# Altium integrated library Linear Technology Comparators.IntLib: 630 symbols (part 24 of 24)
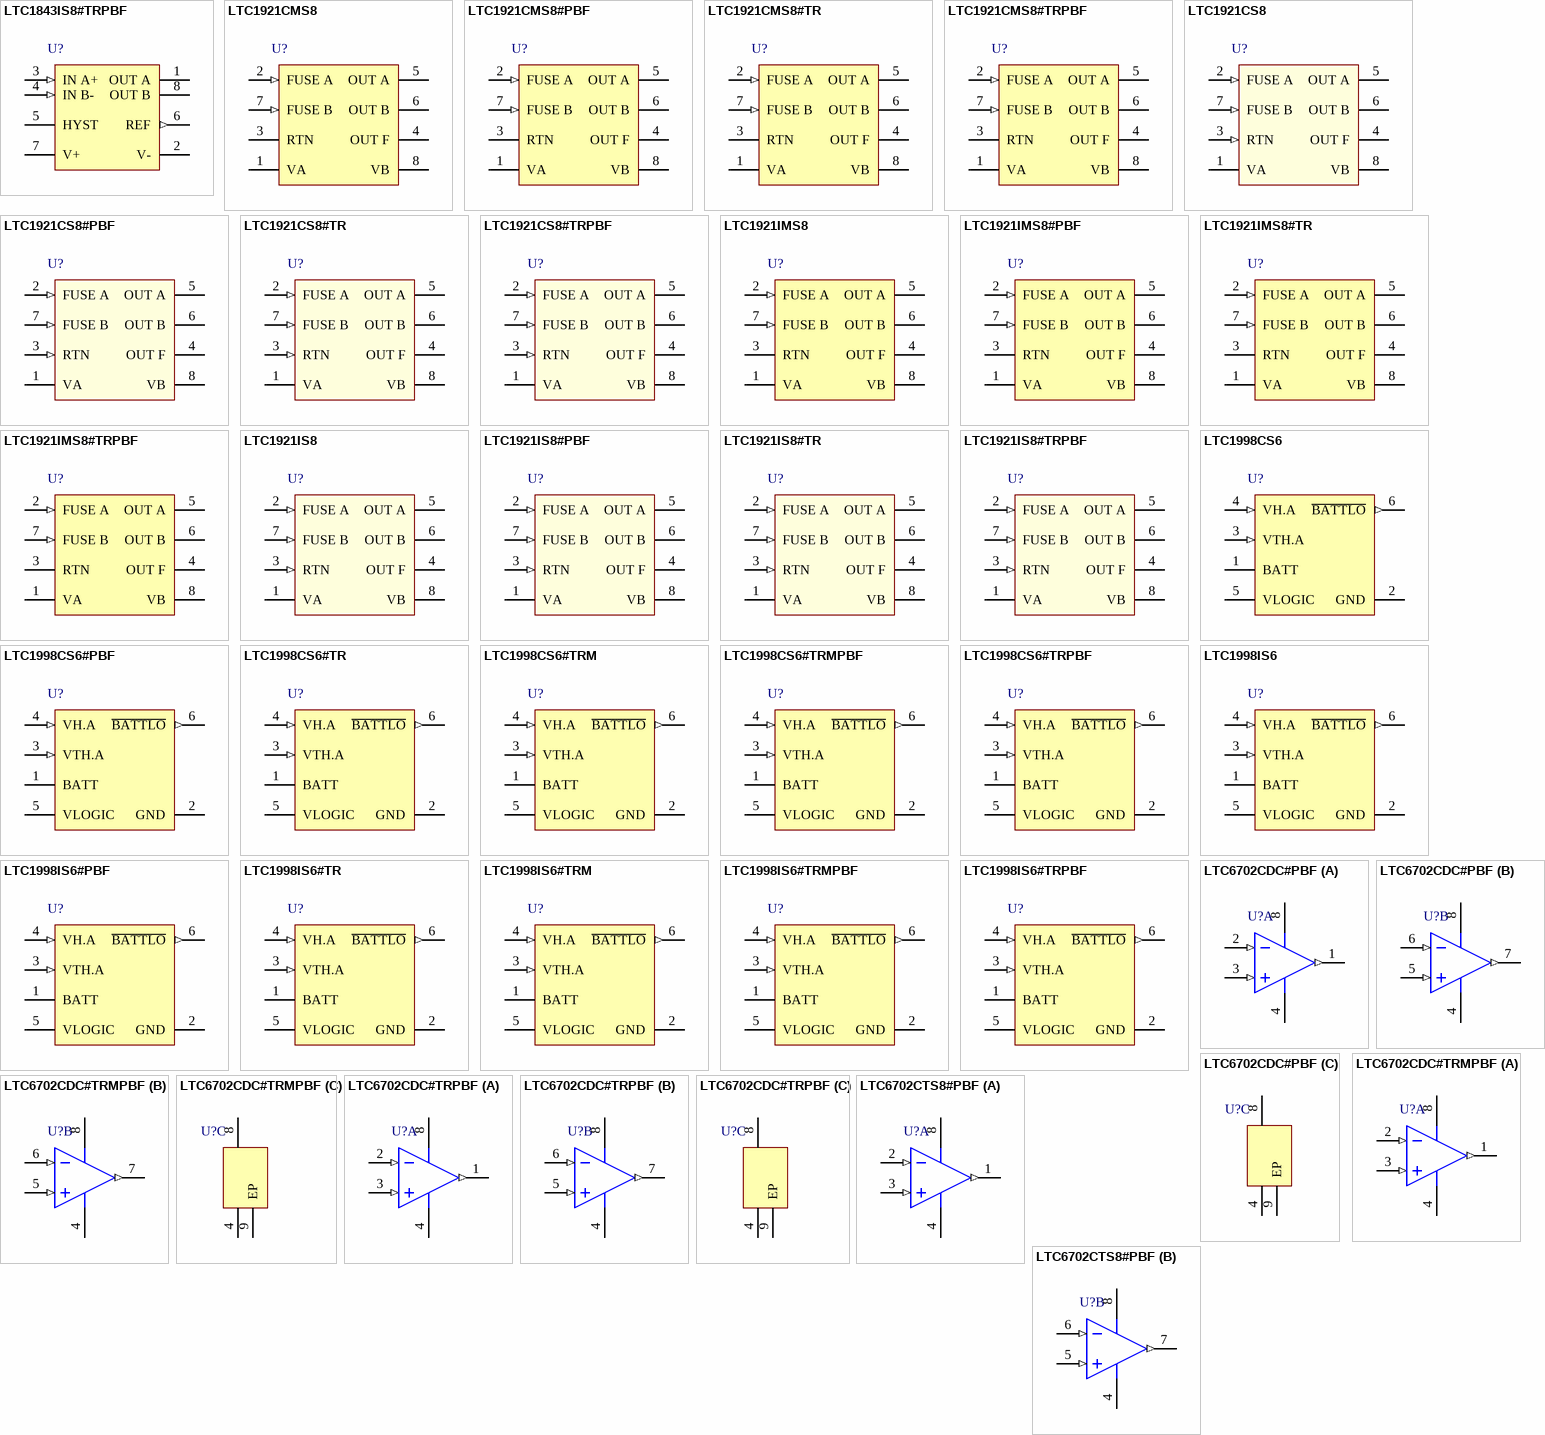
[diagram p47: symbols LTC1843IS8#TRPBF to LTC6702CTS8#PBF]

## LTC1998CS6
designator U?
2.5 µA, 1 % Accurate SOT-23 Comparator and Voltage Reference for Battery Monitoring, 1 Channel, 1.5 to 5.5 V, 0 to +70 degC, 6-pin Plastic TSOT-23 (S6); Generic Part Number: LTC1998; Manufacturer: Linear Technology; PartNumber: LTC1998CS6; Channels (#): 1; Prop Delay (us): 150; Supply Current (uA) Typical: 3.5; Vs Max (V): 5.5; Vs Min (V): 1.5; DatasheetVersion: Rev B; PackageReference: S6; PackageDescription: 6-Pin Plastic TSOT-23, Body 2.9 x 1.63 mm, Pitch 0.95 mm; Features: Reference, Comparator; RoHS: N; Supply Voltage Range: 1.5 to 5.5 V; Mounting Technology: Surface Mount; Code_JEDEC: MO-193; ComponentLink1Description: Manufacturer URL; ComponentLink1URL: http://www.linear.com/; ComponentLink2Description: Datasheet; ComponentLink2URL: http://cds.linear.com/docs/en/datasheet/1998fb.pdf; ComponentLink3Description: Package Specification; ComponentLink3URL: http://cds.linear.com/docs/en/packaging/SOT_6_05-08-1636.pdf
footprint LT-S6_N (SOT23, 6-Leads, Body 2.9x1.63mm, Pitch 0.95mm, IPC Medium Density)
footprint LT-S6_L (SOT23, 6-Leads, Body 2.9x1.63mm, Pitch 0.95mm, IPC High Density)
footprint LT-S6_M (SOT23, 6-Leads, Body 2.9x1.63mm, Pitch 0.95mm, IPC Low Density)
pins: 1 BATT (power) "Battery Voltage to be monitored. Supply current is also drawn from this pin. Board layout should connect this pin to the battery(+) terminal, through a trace that does not conduct load current.?", 2 GND (power) "Ground should be connected to the battery (-) terminal through a trace that does not conduct load return current.", 3 VTH.A (in) "Threshold Adjust Pin. Adjusts the low battery threshold voltage, VBATT.Th = 2.5V + (VTH.A/2). VTH.A can be supplied by a voltage source or a resistor divider.", 4 VH.A (in) "Hysteresis Adjust. Hysteresis threshold voltage VTH2 = 2.5V + (VH.A/2). VH.A can be supplied by a voltage source or resistor divider. VH.A must always be programmed to a higher potential than VTH.A. Hysteresis voltage, VHYST (See Datasheet)", 5 VLOGIC (power) "Positive Supply Voltage for Output Driver. This voltage can be driven from an external logic supply or tied to BATT.", 6 ~{BATTLO} (out) "Output of Comparator. Low for BATT < VBATT.Th (low battery threshold voltage). Output state guaranteed for VBATT>=1.5V."

## LTC1998CS6#PBF
designator U?
2.5 µA, 1 % Accurate SOT-23 Comparator and Voltage Reference for Battery Monitoring, 1 Channel, 1.5 to 5.5 V, 0 to +70 degC, 6-pin Plastic TSOT-23 (S6); Generic Part Number: LTC1998; Manufacturer: Linear Technology; PartNumber: LTC1998CS6#PBF; Channels (#): 1; Prop Delay (us): 150; Supply Current (uA) Typical: 3.5; Vs Max (V): 5.5; Vs Min (V): 1.5; DatasheetVersion: Rev B; PackageReference: S6; PackageDescription: 6-Pin Plastic TSOT-23, Body 2.9 x 1.63 mm, Pitch 0.95 mm; Features: Reference, Comparator; RoHS: Y; Supply Voltage Range: 1.5 to 5.5 V; Mounting Technology: Surface Mount; Code_JEDEC: MO-193; ComponentLink1Description: Manufacturer URL; ComponentLink1URL: http://www.linear.com/; ComponentLink2Description: Datasheet; ComponentLink2URL: http://cds.linear.com/docs/en/datasheet/1998fb.pdf; ComponentLink3Description: Package Specification; ComponentLink3URL: http://cds.linear.com/docs/en/packaging/SOT_6_05-08-1636.pdf
footprint LT-S6_N (SOT23, 6-Leads, Body 2.9x1.63mm, Pitch 0.95mm, IPC Medium Density)
footprint LT-S6_L (SOT23, 6-Leads, Body 2.9x1.63mm, Pitch 0.95mm, IPC High Density)
footprint LT-S6_M (SOT23, 6-Leads, Body 2.9x1.63mm, Pitch 0.95mm, IPC Low Density)
pins: 1 BATT (power) "Battery Voltage to be monitored. Supply current is also drawn from this pin. Board layout should connect this pin to the battery(+) terminal, through a trace that does not conduct load current.?", 2 GND (power) "Ground should be connected to the battery (-) terminal through a trace that does not conduct load return current.", 3 VTH.A (in) "Threshold Adjust Pin. Adjusts the low battery threshold voltage, VBATT.Th = 2.5V + (VTH.A/2). VTH.A can be supplied by a voltage source or a resistor divider.", 4 VH.A (in) "Hysteresis Adjust. Hysteresis threshold voltage VTH2 = 2.5V + (VH.A/2). VH.A can be supplied by a voltage source or resistor divider. VH.A must always be programmed to a higher potential than VTH.A. Hysteresis voltage, VHYST (See Datasheet)", 5 VLOGIC (power) "Positive Supply Voltage for Output Driver. This voltage can be driven from an external logic supply or tied to BATT.", 6 ~{BATTLO} (out) "Output of Comparator. Low for BATT < VBATT.Th (low battery threshold voltage). Output state guaranteed for VBATT>=1.5V."

## LTC1998CS6#TR
designator U?
2.5 µA, 1 % Accurate SOT-23 Comparator and Voltage Reference for Battery Monitoring, 1 Channel, 1.5 to 5.5 V, 0 to +70 degC, 6-pin Plastic TSOT-23 (S6), Tape and Reel; Generic Part Number: LTC1998; Manufacturer: Linear Technology; PartNumber: LTC1998CS6#TR; Channels (#): 1; Prop Delay (us): 150; Supply Current (uA) Typical: 3.5; Vs Max (V): 5.5; Vs Min (V): 1.5; DatasheetVersion: Rev B; PackageReference: S6; PackageDescription: 6-Pin Plastic TSOT-23, Body 2.9 x 1.63 mm, Pitch 0.95 mm; Supplier 1: Digi-Key; Supplier Part Number 1: LTC1998CS6TR-ND; Features: Reference, Comparator; RoHS: N; Supply Voltage Range: 1.5 to 5.5 V; Mounting Technology: Surface Mount; Code_JEDEC: MO-193; ComponentLink1Description: Manufacturer URL; ComponentLink1URL: http://www.linear.com/; ComponentLink2Description: Datasheet; ComponentLink2URL: http://cds.linear.com/docs/en/datasheet/1998fb.pdf; ComponentLink3Description: Package Specification; ComponentLink3URL: http://cds.linear.com/docs/en/packaging/SOT_6_05-08-1636.pdf
footprint LT-S6_N (SOT23, 6-Leads, Body 2.9x1.63mm, Pitch 0.95mm, IPC Medium Density)
footprint LT-S6_L (SOT23, 6-Leads, Body 2.9x1.63mm, Pitch 0.95mm, IPC High Density)
footprint LT-S6_M (SOT23, 6-Leads, Body 2.9x1.63mm, Pitch 0.95mm, IPC Low Density)
pins: 1 BATT (power) "Battery Voltage to be monitored. Supply current is also drawn from this pin. Board layout should connect this pin to the battery(+) terminal, through a trace that does not conduct load current.?", 2 GND (power) "Ground should be connected to the battery (-) terminal through a trace that does not conduct load return current.", 3 VTH.A (in) "Threshold Adjust Pin. Adjusts the low battery threshold voltage, VBATT.Th = 2.5V + (VTH.A/2). VTH.A can be supplied by a voltage source or a resistor divider.", 4 VH.A (in) "Hysteresis Adjust. Hysteresis threshold voltage VTH2 = 2.5V + (VH.A/2). VH.A can be supplied by a voltage source or resistor divider. VH.A must always be programmed to a higher potential than VTH.A. Hysteresis voltage, VHYST (See Datasheet)", 5 VLOGIC (power) "Positive Supply Voltage for Output Driver. This voltage can be driven from an external logic supply or tied to BATT.", 6 ~{BATTLO} (out) "Output of Comparator. Low for BATT < VBATT.Th (low battery threshold voltage). Output state guaranteed for VBATT>=1.5V."

## LTC1998CS6#TRM
designator U?
2.5 µA, 1 % Accurate SOT-23 Comparator and Voltage Reference for Battery Monitoring, 1 Channel, 1.5 to 5.5 V, 0 to +70 degC, 6-pin Plastic TSOT-23 (S6), Mini Tape and Reel; Generic Part Number: LTC1998; Manufacturer: Linear Technology; PartNumber: LTC1998CS6#TRM; Channels (#): 1; Prop Delay (us): 150; Supply Current (uA) Typical: 3.5; Vs Max (V): 5.5; Vs Min (V): 1.5; DatasheetVersion: Rev B; PackageReference: S6; PackageDescription: 6-Pin Plastic TSOT-23, Body 2.9 x 1.63 mm, Pitch 0.95 mm; Supplier 1: Digi-Key; Supplier Part Number 1: LTC1998CS6#TRMTR-ND; Supplier 2: Digi-Key; Supplier Part Number 2: LTC1998CS6#TRMCT-ND; Features: Reference, Comparator; RoHS: N; Supply Voltage Range: 1.5 to 5.5 V; Mounting Technology: Surface Mount; Code_JEDEC: MO-193; ComponentLink1Description: Manufacturer URL; ComponentLink1URL: http://www.linear.com/; ComponentLink2Description: Datasheet; ComponentLink2URL: http://cds.linear.com/docs/en/datasheet/1998fb.pdf; ComponentLink3Description: Package Specification; ComponentLink3URL: http://cds.linear.com/docs/en/packaging/SOT_6_05-08-1636.pdf
footprint LT-S6_N (SOT23, 6-Leads, Body 2.9x1.63mm, Pitch 0.95mm, IPC Medium Density)
footprint LT-S6_L (SOT23, 6-Leads, Body 2.9x1.63mm, Pitch 0.95mm, IPC High Density)
footprint LT-S6_M (SOT23, 6-Leads, Body 2.9x1.63mm, Pitch 0.95mm, IPC Low Density)
pins: 1 BATT (power) "Battery Voltage to be monitored. Supply current is also drawn from this pin. Board layout should connect this pin to the battery(+) terminal, through a trace that does not conduct load current.?", 2 GND (power) "Ground should be connected to the battery (-) terminal through a trace that does not conduct load return current.", 3 VTH.A (in) "Threshold Adjust Pin. Adjusts the low battery threshold voltage, VBATT.Th = 2.5V + (VTH.A/2). VTH.A can be supplied by a voltage source or a resistor divider.", 4 VH.A (in) "Hysteresis Adjust. Hysteresis threshold voltage VTH2 = 2.5V + (VH.A/2). VH.A can be supplied by a voltage source or resistor divider. VH.A must always be programmed to a higher potential than VTH.A. Hysteresis voltage, VHYST (See Datasheet)", 5 VLOGIC (power) "Positive Supply Voltage for Output Driver. This voltage can be driven from an external logic supply or tied to BATT.", 6 ~{BATTLO} (out) "Output of Comparator. Low for BATT < VBATT.Th (low battery threshold voltage). Output state guaranteed for VBATT>=1.5V."

## LTC1998CS6#TRMPBF
designator U?
2.5 µA, 1 % Accurate SOT-23 Comparator and Voltage Reference for Battery Monitoring, 1 Channel, 1.5 to 5.5 V, 0 to +70 degC, 6-pin Plastic TSOT-23 (S6), Mini Tape and Reel; Generic Part Number: LTC1998; Manufacturer: Linear Technology; PartNumber: LTC1998CS6#TRMPBF; Channels (#): 1; Prop Delay (us): 150; Supply Current (uA) Typical: 3.5; Vs Max (V): 5.5; Vs Min (V): 1.5; DatasheetVersion: Rev B; PackageReference: S6; PackageDescription: 6-Pin Plastic TSOT-23, Body 2.9 x 1.63 mm, Pitch 0.95 mm; Supplier 1: Digi-Key; Supplier Part Number 1: LTC1998CS6#TRMPBFTR-ND; Supplier 2: Digi-Key; Supplier Part Number 2: LTC1998CS6#TRMPBFCT-ND; Supplier 3: Digi-Key; Supplier Part Number 3: LTC1998CS6#TRMPBFDKR-ND; Supplier 4: Farnell; Supplier Part Number 4: 1663873; Supplier 5: Farnell; Supplier Part Number 5: 1663873RL; Supplier 6: Newark; Supplier Part Number 6: 58M0722; Features: Reference, Comparator; RoHS: Y; Supply Voltage Range: 1.5 to 5.5 V; Mounting Technology: Surface Mount; Code_JEDEC: MO-193; ComponentLink1Description: Manufacturer URL; ComponentLink1URL: http://www.linear.com/; ComponentLink2Description: Datasheet; ComponentLink2URL: http://cds.linear.com/docs/en/datasheet/1998fb.pdf; ComponentLink3Description: Package Specification; ComponentLink3URL: http://cds.linear.com/docs/en/packaging/SOT_6_05-08-1636.pdf
footprint LT-S6_N (SOT23, 6-Leads, Body 2.9x1.63mm, Pitch 0.95mm, IPC Medium Density)
footprint LT-S6_L (SOT23, 6-Leads, Body 2.9x1.63mm, Pitch 0.95mm, IPC High Density)
footprint LT-S6_M (SOT23, 6-Leads, Body 2.9x1.63mm, Pitch 0.95mm, IPC Low Density)
pins: 1 BATT (power) "Battery Voltage to be monitored. Supply current is also drawn from this pin. Board layout should connect this pin to the battery(+) terminal, through a trace that does not conduct load current.?", 2 GND (power) "Ground should be connected to the battery (-) terminal through a trace that does not conduct load return current.", 3 VTH.A (in) "Threshold Adjust Pin. Adjusts the low battery threshold voltage, VBATT.Th = 2.5V + (VTH.A/2). VTH.A can be supplied by a voltage source or a resistor divider.", 4 VH.A (in) "Hysteresis Adjust. Hysteresis threshold voltage VTH2 = 2.5V + (VH.A/2). VH.A can be supplied by a voltage source or resistor divider. VH.A must always be programmed to a higher potential than VTH.A. Hysteresis voltage, VHYST (See Datasheet)", 5 VLOGIC (power) "Positive Supply Voltage for Output Driver. This voltage can be driven from an external logic supply or tied to BATT.", 6 ~{BATTLO} (out) "Output of Comparator. Low for BATT < VBATT.Th (low battery threshold voltage). Output state guaranteed for VBATT>=1.5V."

## LTC1998CS6#TRPBF
designator U?
2.5 µA, 1 % Accurate SOT-23 Comparator and Voltage Reference for Battery Monitoring, 1 Channel, 1.5 to 5.5 V, 0 to +70 degC, 6-pin Plastic TSOT-23 (S6), Tape and Reel; Generic Part Number: LTC1998; Manufacturer: Linear Technology; PartNumber: LTC1998CS6#TRPBF; Channels (#): 1; Prop Delay (us): 150; Supply Current (uA) Typical: 3.5; Vs Max (V): 5.5; Vs Min (V): 1.5; DatasheetVersion: Rev B; PackageReference: S6; PackageDescription: 6-Pin Plastic TSOT-23, Body 2.9 x 1.63 mm, Pitch 0.95 mm; Supplier 1: Digi-Key; Supplier Part Number 1: LTC1998CS6#TRPBF-ND; Features: Reference, Comparator; RoHS: Y; Supply Voltage Range: 1.5 to 5.5 V; Mounting Technology: Surface Mount; Code_JEDEC: MO-193; ComponentLink1Description: Manufacturer URL; ComponentLink1URL: http://www.linear.com/; ComponentLink2Description: Datasheet; ComponentLink2URL: http://cds.linear.com/docs/en/datasheet/1998fb.pdf; ComponentLink3Description: Package Specification; ComponentLink3URL: http://cds.linear.com/docs/en/packaging/SOT_6_05-08-1636.pdf
footprint LT-S6_N (SOT23, 6-Leads, Body 2.9x1.63mm, Pitch 0.95mm, IPC Medium Density)
footprint LT-S6_L (SOT23, 6-Leads, Body 2.9x1.63mm, Pitch 0.95mm, IPC High Density)
footprint LT-S6_M (SOT23, 6-Leads, Body 2.9x1.63mm, Pitch 0.95mm, IPC Low Density)
pins: 1 BATT (power) "Battery Voltage to be monitored. Supply current is also drawn from this pin. Board layout should connect this pin to the battery(+) terminal, through a trace that does not conduct load current.?", 2 GND (power) "Ground should be connected to the battery (-) terminal through a trace that does not conduct load return current.", 3 VTH.A (in) "Threshold Adjust Pin. Adjusts the low battery threshold voltage, VBATT.Th = 2.5V + (VTH.A/2). VTH.A can be supplied by a voltage source or a resistor divider.", 4 VH.A (in) "Hysteresis Adjust. Hysteresis threshold voltage VTH2 = 2.5V + (VH.A/2). VH.A can be supplied by a voltage source or resistor divider. VH.A must always be programmed to a higher potential than VTH.A. Hysteresis voltage, VHYST (See Datasheet)", 5 VLOGIC (power) "Positive Supply Voltage for Output Driver. This voltage can be driven from an external logic supply or tied to BATT.", 6 ~{BATTLO} (out) "Output of Comparator. Low for BATT < VBATT.Th (low battery threshold voltage). Output state guaranteed for VBATT>=1.5V."

## LTC1998IS6
designator U?
2.5 µA, 1 % Accurate SOT-23 Comparator and Voltage Reference for Battery Monitoring, 1 Channel, 1.5 to 5.5 V, -40 to +85 degC, 6-pin Plastic TSOT-23 (S6); Generic Part Number: LTC1998; Manufacturer: Linear Technology; PartNumber: LTC1998IS6; Channels (#): 1; Prop Delay (us): 150; Supply Current (uA) Typical: 3.5; Vs Max (V): 5.5; Vs Min (V): 1.5; DatasheetVersion: Rev B; PackageReference: S6; PackageDescription: 6-Pin Plastic TSOT-23, Body 2.9 x 1.63 mm, Pitch 0.95 mm; Features: Reference, Comparator; RoHS: N; Supply Voltage Range: 1.5 to 5.5 V; Mounting Technology: Surface Mount; Code_JEDEC: MO-193; ComponentLink1Description: Manufacturer URL; ComponentLink1URL: http://www.linear.com/; ComponentLink2Description: Datasheet; ComponentLink2URL: http://cds.linear.com/docs/en/datasheet/1998fb.pdf; ComponentLink3Description: Package Specification; ComponentLink3URL: http://cds.linear.com/docs/en/packaging/SOT_6_05-08-1636.pdf
footprint LT-S6_N (SOT23, 6-Leads, Body 2.9x1.63mm, Pitch 0.95mm, IPC Medium Density)
footprint LT-S6_L (SOT23, 6-Leads, Body 2.9x1.63mm, Pitch 0.95mm, IPC High Density)
footprint LT-S6_M (SOT23, 6-Leads, Body 2.9x1.63mm, Pitch 0.95mm, IPC Low Density)
pins: 1 BATT (power) "Battery Voltage to be monitored. Supply current is also drawn from this pin. Board layout should connect this pin to the battery(+) terminal, through a trace that does not conduct load current.?", 2 GND (power) "Ground should be connected to the battery (-) terminal through a trace that does not conduct load return current.", 3 VTH.A (in) "Threshold Adjust Pin. Adjusts the low battery threshold voltage, VBATT.Th = 2.5V + (VTH.A/2). VTH.A can be supplied by a voltage source or a resistor divider.", 4 VH.A (in) "Hysteresis Adjust. Hysteresis threshold voltage VTH2 = 2.5V + (VH.A/2). VH.A can be supplied by a voltage source or resistor divider. VH.A must always be programmed to a higher potential than VTH.A. Hysteresis voltage, VHYST (See Datasheet)", 5 VLOGIC (power) "Positive Supply Voltage for Output Driver. This voltage can be driven from an external logic supply or tied to BATT.", 6 ~{BATTLO} (out) "Output of Comparator. Low for BATT < VBATT.Th (low battery threshold voltage). Output state guaranteed for VBATT>=1.5V."

## LTC1998IS6#PBF
designator U?
2.5 µA, 1 % Accurate SOT-23 Comparator and Voltage Reference for Battery Monitoring, 1 Channel, 1.5 to 5.5 V, -40 to +85 degC, 6-pin Plastic TSOT-23 (S6); Generic Part Number: LTC1998; Manufacturer: Linear Technology; PartNumber: LTC1998IS6#PBF; Channels (#): 1; Prop Delay (us): 150; Supply Current (uA) Typical: 3.5; Vs Max (V): 5.5; Vs Min (V): 1.5; DatasheetVersion: Rev B; PackageReference: S6; PackageDescription: 6-Pin Plastic TSOT-23, Body 2.9 x 1.63 mm, Pitch 0.95 mm; Features: Reference, Comparator; RoHS: Y; Supply Voltage Range: 1.5 to 5.5 V; Mounting Technology: Surface Mount; Code_JEDEC: MO-193; ComponentLink1Description: Manufacturer URL; ComponentLink1URL: http://www.linear.com/; ComponentLink2Description: Datasheet; ComponentLink2URL: http://cds.linear.com/docs/en/datasheet/1998fb.pdf; ComponentLink3Description: Package Specification; ComponentLink3URL: http://cds.linear.com/docs/en/packaging/SOT_6_05-08-1636.pdf
footprint LT-S6_N (SOT23, 6-Leads, Body 2.9x1.63mm, Pitch 0.95mm, IPC Medium Density)
footprint LT-S6_L (SOT23, 6-Leads, Body 2.9x1.63mm, Pitch 0.95mm, IPC High Density)
footprint LT-S6_M (SOT23, 6-Leads, Body 2.9x1.63mm, Pitch 0.95mm, IPC Low Density)
pins: 1 BATT (power) "Battery Voltage to be monitored. Supply current is also drawn from this pin. Board layout should connect this pin to the battery(+) terminal, through a trace that does not conduct load current.?", 2 GND (power) "Ground should be connected to the battery (-) terminal through a trace that does not conduct load return current.", 3 VTH.A (in) "Threshold Adjust Pin. Adjusts the low battery threshold voltage, VBATT.Th = 2.5V + (VTH.A/2). VTH.A can be supplied by a voltage source or a resistor divider.", 4 VH.A (in) "Hysteresis Adjust. Hysteresis threshold voltage VTH2 = 2.5V + (VH.A/2). VH.A can be supplied by a voltage source or resistor divider. VH.A must always be programmed to a higher potential than VTH.A. Hysteresis voltage, VHYST (See Datasheet)", 5 VLOGIC (power) "Positive Supply Voltage for Output Driver. This voltage can be driven from an external logic supply or tied to BATT.", 6 ~{BATTLO} (out) "Output of Comparator. Low for BATT < VBATT.Th (low battery threshold voltage). Output state guaranteed for VBATT>=1.5V."

## LTC1998IS6#TR
designator U?
2.5 µA, 1 % Accurate SOT-23 Comparator and Voltage Reference for Battery Monitoring, 1 Channel, 1.5 to 5.5 V, -40 to +85 degC, 6-pin Plastic TSOT-23 (S6), Tape and Reel; Generic Part Number: LTC1998; Manufacturer: Linear Technology; PartNumber: LTC1998IS6#TR; Channels (#): 1; Prop Delay (us): 150; Supply Current (uA) Typical: 3.5; Vs Max (V): 5.5; Vs Min (V): 1.5; DatasheetVersion: Rev B; PackageReference: S6; PackageDescription: 6-Pin Plastic TSOT-23, Body 2.9 x 1.63 mm, Pitch 0.95 mm; Supplier 1: Digi-Key; Supplier Part Number 1: LTC1998IS6TR-ND; Features: Reference, Comparator; RoHS: N; Supply Voltage Range: 1.5 to 5.5 V; Mounting Technology: Surface Mount; Code_JEDEC: MO-193; ComponentLink1Description: Manufacturer URL; ComponentLink1URL: http://www.linear.com/; ComponentLink2Description: Datasheet; ComponentLink2URL: http://cds.linear.com/docs/en/datasheet/1998fb.pdf; ComponentLink3Description: Package Specification; ComponentLink3URL: http://cds.linear.com/docs/en/packaging/SOT_6_05-08-1636.pdf
footprint LT-S6_N (SOT23, 6-Leads, Body 2.9x1.63mm, Pitch 0.95mm, IPC Medium Density)
footprint LT-S6_L (SOT23, 6-Leads, Body 2.9x1.63mm, Pitch 0.95mm, IPC High Density)
footprint LT-S6_M (SOT23, 6-Leads, Body 2.9x1.63mm, Pitch 0.95mm, IPC Low Density)
pins: 1 BATT (power) "Battery Voltage to be monitored. Supply current is also drawn from this pin. Board layout should connect this pin to the battery(+) terminal, through a trace that does not conduct load current.?", 2 GND (power) "Ground should be connected to the battery (-) terminal through a trace that does not conduct load return current.", 3 VTH.A (in) "Threshold Adjust Pin. Adjusts the low battery threshold voltage, VBATT.Th = 2.5V + (VTH.A/2). VTH.A can be supplied by a voltage source or a resistor divider.", 4 VH.A (in) "Hysteresis Adjust. Hysteresis threshold voltage VTH2 = 2.5V + (VH.A/2). VH.A can be supplied by a voltage source or resistor divider. VH.A must always be programmed to a higher potential than VTH.A. Hysteresis voltage, VHYST (See Datasheet)", 5 VLOGIC (power) "Positive Supply Voltage for Output Driver. This voltage can be driven from an external logic supply or tied to BATT.", 6 ~{BATTLO} (out) "Output of Comparator. Low for BATT < VBATT.Th (low battery threshold voltage). Output state guaranteed for VBATT>=1.5V."

## LTC1998IS6#TRM
designator U?
2.5 µA, 1 % Accurate SOT-23 Comparator and Voltage Reference for Battery Monitoring, 1 Channel, 1.5 to 5.5 V, -40 to +85 degC, 6-pin Plastic TSOT-23 (S6), Mini Tape and Reel; Generic Part Number: LTC1998; Manufacturer: Linear Technology; PartNumber: LTC1998IS6#TRM; Channels (#): 1; Prop Delay (us): 150; Supply Current (uA) Typical: 3.5; Vs Max (V): 5.5; Vs Min (V): 1.5; DatasheetVersion: Rev B; PackageReference: S6; PackageDescription: 6-Pin Plastic TSOT-23, Body 2.9 x 1.63 mm, Pitch 0.95 mm; Supplier 1: Digi-Key; Supplier Part Number 1: LTC1998IS6#TRM-ND; Features: Reference, Comparator; RoHS: N; Supply Voltage Range: 1.5 to 5.5 V; Mounting Technology: Surface Mount; Code_JEDEC: MO-193; ComponentLink1Description: Manufacturer URL; ComponentLink1URL: http://www.linear.com/; ComponentLink2Description: Datasheet; ComponentLink2URL: http://cds.linear.com/docs/en/datasheet/1998fb.pdf; ComponentLink3Description: Package Specification; ComponentLink3URL: http://cds.linear.com/docs/en/packaging/SOT_6_05-08-1636.pdf
footprint LT-S6_N (SOT23, 6-Leads, Body 2.9x1.63mm, Pitch 0.95mm, IPC Medium Density)
footprint LT-S6_L (SOT23, 6-Leads, Body 2.9x1.63mm, Pitch 0.95mm, IPC High Density)
footprint LT-S6_M (SOT23, 6-Leads, Body 2.9x1.63mm, Pitch 0.95mm, IPC Low Density)
pins: 1 BATT (power) "Battery Voltage to be monitored. Supply current is also drawn from this pin. Board layout should connect this pin to the battery(+) terminal, through a trace that does not conduct load current.?", 2 GND (power) "Ground should be connected to the battery (-) terminal through a trace that does not conduct load return current.", 3 VTH.A (in) "Threshold Adjust Pin. Adjusts the low battery threshold voltage, VBATT.Th = 2.5V + (VTH.A/2). VTH.A can be supplied by a voltage source or a resistor divider.", 4 VH.A (in) "Hysteresis Adjust. Hysteresis threshold voltage VTH2 = 2.5V + (VH.A/2). VH.A can be supplied by a voltage source or resistor divider. VH.A must always be programmed to a higher potential than VTH.A. Hysteresis voltage, VHYST (See Datasheet)", 5 VLOGIC (power) "Positive Supply Voltage for Output Driver. This voltage can be driven from an external logic supply or tied to BATT.", 6 ~{BATTLO} (out) "Output of Comparator. Low for BATT < VBATT.Th (low battery threshold voltage). Output state guaranteed for VBATT>=1.5V."

## LTC1998IS6#TRMPBF
designator U?
2.5 µA, 1 % Accurate SOT-23 Comparator and Voltage Reference for Battery Monitoring, 1 Channel, 1.5 to 5.5 V, -40 to +85 degC, 6-pin Plastic TSOT-23 (S6), Mini Tape and Reel; Generic Part Number: LTC1998; Manufacturer: Linear Technology; PartNumber: LTC1998IS6#TRMPBF; Channels (#): 1; Prop Delay (us): 150; Supply Current (uA) Typical: 3.5; Vs Max (V): 5.5; Vs Min (V): 1.5; DatasheetVersion: Rev B; PackageReference: S6; PackageDescription: 6-Pin Plastic TSOT-23, Body 2.9 x 1.63 mm, Pitch 0.95 mm; Supplier 1: Digi-Key; Supplier Part Number 1: LTC1998IS6#TRMPBF-ND; Features: Reference, Comparator; RoHS: Y; Supply Voltage Range: 1.5 to 5.5 V; Mounting Technology: Surface Mount; Code_JEDEC: MO-193; ComponentLink1Description: Manufacturer URL; ComponentLink1URL: http://www.linear.com/; ComponentLink2Description: Datasheet; ComponentLink2URL: http://cds.linear.com/docs/en/datasheet/1998fb.pdf; ComponentLink3Description: Package Specification; ComponentLink3URL: http://cds.linear.com/docs/en/packaging/SOT_6_05-08-1636.pdf
footprint LT-S6_N (SOT23, 6-Leads, Body 2.9x1.63mm, Pitch 0.95mm, IPC Medium Density)
footprint LT-S6_L (SOT23, 6-Leads, Body 2.9x1.63mm, Pitch 0.95mm, IPC High Density)
footprint LT-S6_M (SOT23, 6-Leads, Body 2.9x1.63mm, Pitch 0.95mm, IPC Low Density)
pins: 1 BATT (power) "Battery Voltage to be monitored. Supply current is also drawn from this pin. Board layout should connect this pin to the battery(+) terminal, through a trace that does not conduct load current.?", 2 GND (power) "Ground should be connected to the battery (-) terminal through a trace that does not conduct load return current.", 3 VTH.A (in) "Threshold Adjust Pin. Adjusts the low battery threshold voltage, VBATT.Th = 2.5V + (VTH.A/2). VTH.A can be supplied by a voltage source or a resistor divider.", 4 VH.A (in) "Hysteresis Adjust. Hysteresis threshold voltage VTH2 = 2.5V + (VH.A/2). VH.A can be supplied by a voltage source or resistor divider. VH.A must always be programmed to a higher potential than VTH.A. Hysteresis voltage, VHYST (See Datasheet)", 5 VLOGIC (power) "Positive Supply Voltage for Output Driver. This voltage can be driven from an external logic supply or tied to BATT.", 6 ~{BATTLO} (out) "Output of Comparator. Low for BATT < VBATT.Th (low battery threshold voltage). Output state guaranteed for VBATT>=1.5V."

## LTC1998IS6#TRPBF
designator U?
2.5 µA, 1 % Accurate SOT-23 Comparator and Voltage Reference for Battery Monitoring, 1 Channel, 1.5 to 5.5 V, -40 to +85 degC, 6-pin Plastic TSOT-23 (S6), Tape and Reel; Generic Part Number: LTC1998; Manufacturer: Linear Technology; PartNumber: LTC1998IS6#TRPBF; Channels (#): 1; Prop Delay (us): 150; Supply Current (uA) Typical: 3.5; Vs Max (V): 5.5; Vs Min (V): 1.5; DatasheetVersion: Rev B; PackageReference: S6; PackageDescription: 6-Pin Plastic TSOT-23, Body 2.9 x 1.63 mm, Pitch 0.95 mm; Supplier 1: Digi-Key; Supplier Part Number 1: LTC1998IS6#TRPBF-ND; Features: Reference, Comparator; RoHS: Y; Supply Voltage Range: 1.5 to 5.5 V; Mounting Technology: Surface Mount; Code_JEDEC: MO-193; ComponentLink1Description: Manufacturer URL; ComponentLink1URL: http://www.linear.com/; ComponentLink2Description: Datasheet; ComponentLink2URL: http://cds.linear.com/docs/en/datasheet/1998fb.pdf; ComponentLink3Description: Package Specification; ComponentLink3URL: http://cds.linear.com/docs/en/packaging/SOT_6_05-08-1636.pdf
footprint LT-S6_N (SOT23, 6-Leads, Body 2.9x1.63mm, Pitch 0.95mm, IPC Medium Density)
footprint LT-S6_L (SOT23, 6-Leads, Body 2.9x1.63mm, Pitch 0.95mm, IPC High Density)
footprint LT-S6_M (SOT23, 6-Leads, Body 2.9x1.63mm, Pitch 0.95mm, IPC Low Density)
pins: 1 BATT (power) "Battery Voltage to be monitored. Supply current is also drawn from this pin. Board layout should connect this pin to the battery(+) terminal, through a trace that does not conduct load current.?", 2 GND (power) "Ground should be connected to the battery (-) terminal through a trace that does not conduct load return current.", 3 VTH.A (in) "Threshold Adjust Pin. Adjusts the low battery threshold voltage, VBATT.Th = 2.5V + (VTH.A/2). VTH.A can be supplied by a voltage source or a resistor divider.", 4 VH.A (in) "Hysteresis Adjust. Hysteresis threshold voltage VTH2 = 2.5V + (VH.A/2). VH.A can be supplied by a voltage source or resistor divider. VH.A must always be programmed to a higher potential than VTH.A. Hysteresis voltage, VHYST (See Datasheet)", 5 VLOGIC (power) "Positive Supply Voltage for Output Driver. This voltage can be driven from an external logic supply or tied to BATT.", 6 ~{BATTLO} (out) "Output of Comparator. Low for BATT < VBATT.Th (low battery threshold voltage). Output state guaranteed for VBATT>=1.5V."

## LTC6702CDC#PBF
designator U?
Tiny Micropower, Low Voltage Comparator, 2 Channels, 1.7 to 5.5 V, 0 to +70 degC, 8-pin Plastic DFN (DC8); Generic Part Number: LTC6702; Manufacturer: Linear Technology; PartNumber: LTC6702CDC#PBF; Channels (#): 2; Prop Delay (us): 0.5; Supply Current (uA) Typical: 30; Vos (mV) Guaranteed: 3.5; Vos (mV) Typical: 1; Vs Max (V): 5.5; Vs Min (V): 1.5; DatasheetVersion: Rev A; PackageReference: DC8; PackageDescription: 8-Pin Plastic DFN, Body 2 x 2 mm, Pitch 1.37 mm; Features: Comparator; RoHS: Y; Supply Voltage Range: 1.7 to 5.5 V; Mounting Technology: Surface Mount; ComponentLink1Description: Manufacturer URL; ComponentLink1URL: http://www.linear.com/; ComponentLink2Description: Datasheet; ComponentLink2URL: http://cds.linear.com/docs/en/datasheet/6702fa.pdf; ComponentLink3Description: Package Specification; ComponentLink3URL: http://cds.linear.com/docs/en/packaging/DFN_8_05-08-1719.pdf
footprint LT-DC8_V (SON, 8-Leads, Body 2x2mm, Pitch 0.45mm, Thermal Pad 1.37x0.64mm, Recommended)
pins on every part: 4 GND (power) "Ground.", 8 V+ (power) "Positive Supply Voltage"
part A pins: 1 OUT A (out) "Output of Comparator A.", 2 -IN A (in) "Inverting Input of Comparator A.", 3 +IN A (in) "Noninverting Input of Comparator A."
part B pins: 5 +IN B (in) "Noninverting Input of Comparator B.", 6 -IN B (in) "Inverting Input of Comparator B.", 7 OUT B (out) "Output of Comparator B."
part C pins: 9 EP (power) "Ground. The Exposed Pad must be soldered to PCB."

## LTC6702CDC#TRMPBF
designator U?
Tiny Micropower, Low Voltage Comparator, 2 Channels, 1.7 to 5.5 V, 0 to +70 degC, 8-pin Plastic DFN (DC8), Mini Tape and Reel; Generic Part Number: LTC6702; Manufacturer: Linear Technology; PartNumber: LTC6702CDC#TRMPBF; Channels (#): 2; Prop Delay (us): 0.5; Supply Current (uA) Typical: 30; Vos (mV) Guaranteed: 3.5; Vos (mV) Typical: 1; Vs Max (V): 5.5; Vs Min (V): 1.5; DatasheetVersion: Rev A; PackageReference: DC8; PackageDescription: 8-Pin Plastic DFN, Body 2 x 2 mm, Pitch 1.37 mm; Supplier 1: Digi-Key; Supplier Part Number 1: LTC6702CDC#TRMPBFTR-ND; Supplier 2: Digi-Key; Supplier Part Number 2: LTC6702CDC#TRMPBFCT-ND; Supplier 3: Digi-Key; Supplier Part Number 3: LTC6702CDC#TRMPBFDKR-ND; Supplier 4: Farnell; Supplier Part Number 4: 1715056; Features: Comparator; RoHS: Y; Supply Voltage Range: 1.7 to 5.5 V; Mounting Technology: Surface Mount; ComponentLink1Description: Manufacturer URL; ComponentLink1URL: http://www.linear.com/; ComponentLink2Description: Datasheet; ComponentLink2URL: http://cds.linear.com/docs/en/datasheet/6702fa.pdf; ComponentLink3Description: Package Specification; ComponentLink3URL: http://cds.linear.com/docs/en/packaging/DFN_8_05-08-1719.pdf
footprint LT-DC8_V (SON, 8-Leads, Body 2x2mm, Pitch 0.45mm, Thermal Pad 1.37x0.64mm, Recommended)
pins on every part: 4 GND (power) "Ground.", 8 V+ (power) "Positive Supply Voltage"
part A pins: 1 OUT A (out) "Output of Comparator A.", 2 -IN A (in) "Inverting Input of Comparator A.", 3 +IN A (in) "Noninverting Input of Comparator A."
part B pins: 5 +IN B (in) "Noninverting Input of Comparator B.", 6 -IN B (in) "Inverting Input of Comparator B.", 7 OUT B (out) "Output of Comparator B."
part C pins: 9 EP (power) "Ground. The Exposed Pad must be soldered to PCB."

## LTC6702CDC#TRPBF
designator U?
Tiny Micropower, Low Voltage Comparator, 2 Channels, 1.7 to 5.5 V, 0 to +70 degC, 8-pin Plastic DFN (DC8), Tape and Reel; Generic Part Number: LTC6702; Manufacturer: Linear Technology; PartNumber: LTC6702CDC#TRPBF; Channels (#): 2; Prop Delay (us): 0.5; Supply Current (uA) Typical: 30; Vos (mV) Guaranteed: 3.5; Vos (mV) Typical: 1; Vs Max (V): 5.5; Vs Min (V): 1.5; DatasheetVersion: Rev A; PackageReference: DC8; PackageDescription: 8-Pin Plastic DFN, Body 2 x 2 mm, Pitch 1.37 mm; Supplier 1: Digi-Key; Supplier Part Number 1: LTC6702CDC#TRPBF-ND; Features: Comparator; RoHS: Y; Supply Voltage Range: 1.7 to 5.5 V; Mounting Technology: Surface Mount; ComponentLink1Description: Manufacturer URL; ComponentLink1URL: http://www.linear.com/; ComponentLink2Description: Datasheet; ComponentLink2URL: http://cds.linear.com/docs/en/datasheet/6702fa.pdf; ComponentLink3Description: Package Specification; ComponentLink3URL: http://cds.linear.com/docs/en/packaging/DFN_8_05-08-1719.pdf
footprint LT-DC8_V (SON, 8-Leads, Body 2x2mm, Pitch 0.45mm, Thermal Pad 1.37x0.64mm, Recommended)
pins on every part: 4 GND (power) "Ground.", 8 V+ (power) "Positive Supply Voltage"
part A pins: 1 OUT A (out) "Output of Comparator A.", 2 -IN A (in) "Inverting Input of Comparator A.", 3 +IN A (in) "Noninverting Input of Comparator A."
part B pins: 5 +IN B (in) "Noninverting Input of Comparator B.", 6 -IN B (in) "Inverting Input of Comparator B.", 7 OUT B (out) "Output of Comparator B."
part C pins: 9 EP (power) "Ground. The Exposed Pad must be soldered to PCB."

## LTC6702CTS8#PBF
designator U?
Tiny Micropower, Low Voltage Comparator, 2 Channels, 1.7 to 5.5 V, 0 to +70 degC, 8-pin Plastic TSOT-23 (TS8); Generic Part Number: LTC6702; Manufacturer: Linear Technology; PartNumber: LTC6702CTS8#PBF; Channels (#): 2; Prop Delay (us): 0.5; Supply Current (uA) Typical: 30; Vos (mV) Guaranteed: 3.5; Vos (mV) Typical: 1; Vs Max (V): 5.5; Vs Min (V): 1.5; DatasheetVersion: Rev A; PackageVersion: Rev A; PackageReference: TS8-8; PackageDescription: 8-Pin Plastic TSOT-23, Body 2.9 x 1.63 mm, Pitch 0.65 mm; Features: Comparator; RoHS: Y; Supply Voltage Range: 1.7 to 5.5 V; Mounting Technology: Surface Mount; Code_JEDEC: MO-193; ComponentLink1Description: Manufacturer URL; ComponentLink1URL: http://www.linear.com/; ComponentLink2Description: Datasheet; ComponentLink2URL: http://cds.linear.com/docs/en/datasheet/6702fa.pdf; ComponentLink3Description: Package Specification; ComponentLink3URL: http://cds.linear.com/docs/en/packaging/SOT_8_05-08-1637.pdf
footprint LT-TS8-8-TSOT-23_V (SOT23, 8-Leads, Body 2.90x1.63mm, Pitch 0.65mm, Recommended)
pins on every part: 4 GND (power) "Ground.", 8 V+ (power) "Positive Supply Voltage."
part A pins: 1 OUT A (out) "Output of Comparator A.", 2 -IN A (in) "Inverting Input of Comparator A.", 3 +IN A (in) "Noninverting Input of Comparator A."
part B pins: 5 +IN B (in) "Noninverting Input of Comparator B.", 6 -IN B (in) "Inverting Input of Comparator B.", 7 OUT B (out) "Output of Comparator B."

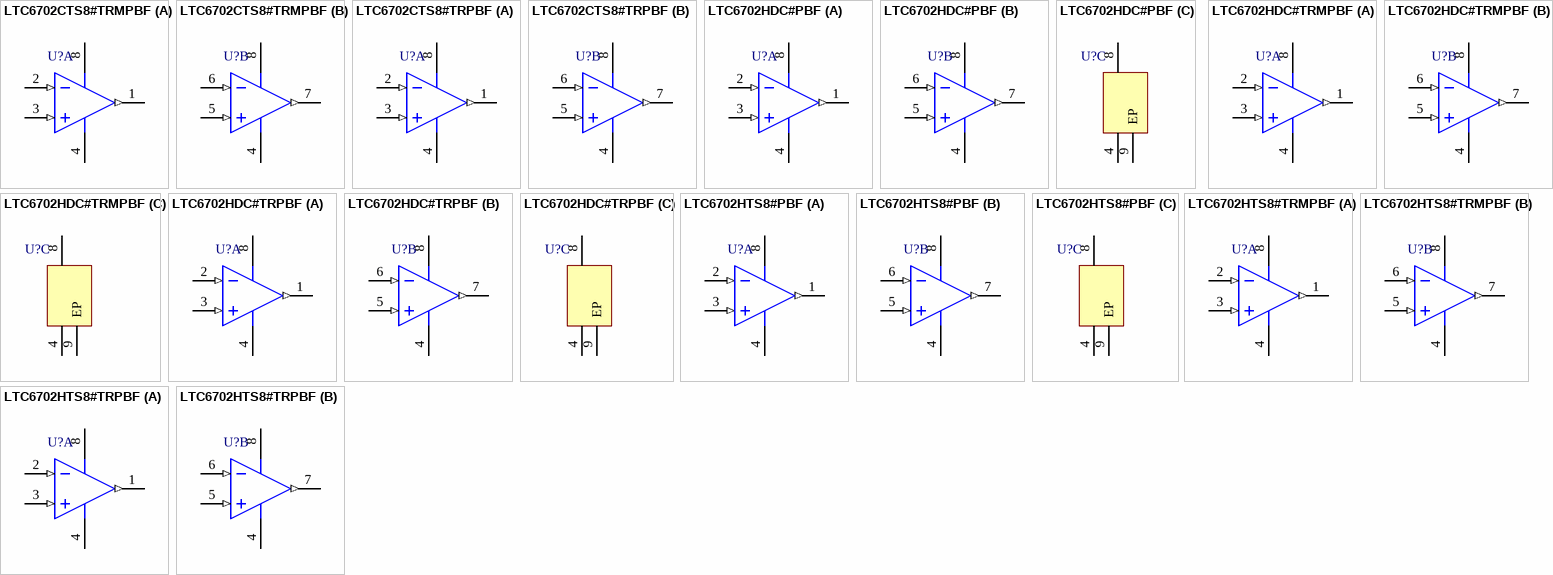
[diagram p24: symbols LTC6702CTS8#TRMPBF to LTC6702HTS8#TRPBF]

## LTC6702CTS8#TRMPBF
designator U?
Tiny Micropower, Low Voltage Comparator, 2 Channels, 1.7 to 5.5 V, 0 to +70 degC, 8-pin Plastic TSOT-23 (TS8), Mini Tape and Reel; Generic Part Number: LTC6702; Manufacturer: Linear Technology; PartNumber: LTC6702CTS8#TRMPBF; Channels (#): 2; Prop Delay (us): 0.5; Supply Current (uA) Typical: 30; Vos (mV) Guaranteed: 3.5; Vos (mV) Typical: 1; Vs Max (V): 5.5; Vs Min (V): 1.5; DatasheetVersion: Rev A; PackageVersion: Rev A; PackageReference: TS8-8; PackageDescription: 8-Pin Plastic TSOT-23, Body 2.9 x 1.63 mm, Pitch 0.65 mm; Supplier 1: Digi-Key; Supplier Part Number 1: LTC6702CTS8#TRMPBFTR-ND; Supplier 2: Digi-Key; Supplier Part Number 2: LTC6702CTS8#TRMPBFCT-ND; Supplier 3: Digi-Key; Supplier Part Number 3: LTC6702CTS8#TRMPBFDKR-ND; Supplier 4: Farnell; Supplier Part Number 4: 1715058RL; Supplier 5: Farnell; Supplier Part Number 5: 1715058; Supplier 6: Newark; Supplier Part Number 6: 79M3626; Features: Comparator; RoHS: Y; Supply Voltage Range: 1.7 to 5.5 V; Mounting Technology: Surface Mount; Code_JEDEC: MO-193; ComponentLink1Description: Manufacturer URL; ComponentLink1URL: http://www.linear.com/; ComponentLink2Description: Datasheet; ComponentLink2URL: http://cds.linear.com/docs/en/datasheet/6702fa.pdf; ComponentLink3Description: Package Specification; ComponentLink3URL: http://cds.linear.com/docs/en/packaging/SOT_8_05-08-1637.pdf
footprint LT-TS8-8-TSOT-23_V (SOT23, 8-Leads, Body 2.90x1.63mm, Pitch 0.65mm, Recommended)
pins on every part: 4 GND (power) "Ground.", 8 V+ (power) "Positive Supply Voltage."
part A pins: 1 OUT A (out) "Output of Comparator A.", 2 -IN A (in) "Inverting Input of Comparator A.", 3 +IN A (in) "Noninverting Input of Comparator A."
part B pins: 5 +IN B (in) "Noninverting Input of Comparator B.", 6 -IN B (in) "Inverting Input of Comparator B.", 7 OUT B (out) "Output of Comparator B."

## LTC6702CTS8#TRPBF
designator U?
Tiny Micropower, Low Voltage Comparator, 2 Channels, 1.7 to 5.5 V, 0 to +70 degC, 8-pin Plastic TSOT-23 (TS8), Tape and Reel; Generic Part Number: LTC6702; Manufacturer: Linear Technology; PartNumber: LTC6702CTS8#TRPBF; Channels (#): 2; Prop Delay (us): 0.5; Supply Current (uA) Typical: 30; Vos (mV) Guaranteed: 3.5; Vos (mV) Typical: 1; Vs Max (V): 5.5; Vs Min (V): 1.5; DatasheetVersion: Rev A; PackageVersion: Rev A; PackageReference: TS8-8; PackageDescription: 8-Pin Plastic TSOT-23, Body 2.9 x 1.63 mm, Pitch 0.65 mm; Supplier 1: Digi-Key; Supplier Part Number 1: LTC6702CTS8#TRPBF-ND; Supplier 2: Newark; Supplier Part Number 2: 79M3627; Features: Comparator; RoHS: Y; Supply Voltage Range: 1.7 to 5.5 V; Mounting Technology: Surface Mount; Code_JEDEC: MO-193; ComponentLink1Description: Manufacturer URL; ComponentLink1URL: http://www.linear.com/; ComponentLink2Description: Datasheet; ComponentLink2URL: http://cds.linear.com/docs/en/datasheet/6702fa.pdf; ComponentLink3Description: Package Specification; ComponentLink3URL: http://cds.linear.com/docs/en/packaging/SOT_8_05-08-1637.pdf
footprint LT-TS8-8-TSOT-23_V (SOT23, 8-Leads, Body 2.90x1.63mm, Pitch 0.65mm, Recommended)
pins on every part: 4 GND (power) "Ground.", 8 V+ (power) "Positive Supply Voltage."
part A pins: 1 OUT A (out) "Output of Comparator A.", 2 -IN A (in) "Inverting Input of Comparator A.", 3 +IN A (in) "Noninverting Input of Comparator A."
part B pins: 5 +IN B (in) "Noninverting Input of Comparator B.", 6 -IN B (in) "Inverting Input of Comparator B.", 7 OUT B (out) "Output of Comparator B."

## LTC6702HDC#PBF
designator U?
Tiny Micropower, Low Voltage Comparator, 2 Channels, 1.7 to 5.5 V, -40 to +125 degC, 8-pin Plastic DFN (DC8); Generic Part Number: LTC6702; Manufacturer: Linear Technology; PartNumber: LTC6702HDC#PBF; Channels (#): 2; Prop Delay (us): 0.5; Supply Current (uA) Typical: 30; Vos (mV) Guaranteed: 3.5; Vos (mV) Typical: 1; Vs Max (V): 5.5; Vs Min (V): 1.5; DatasheetVersion: Rev A; PackageReference: DC8; PackageDescription: 8-Pin Plastic DFN, Body 2 x 2 mm, Pitch 1.37 mm; Features: Comparator; RoHS: Y; Supply Voltage Range: 1.7 to 5.5 V; Mounting Technology: Surface Mount; ComponentLink1Description: Manufacturer URL; ComponentLink1URL: http://www.linear.com/; ComponentLink2Description: Datasheet; ComponentLink2URL: http://cds.linear.com/docs/en/datasheet/6702fa.pdf; ComponentLink3Description: Package Specification; ComponentLink3URL: http://cds.linear.com/docs/en/packaging/DFN_8_05-08-1719.pdf
footprint LT-DC8_V (SON, 8-Leads, Body 2x2mm, Pitch 0.45mm, Thermal Pad 1.37x0.64mm, Recommended)
pins on every part: 4 GND (power) "Ground.", 8 V+ (power) "Positive Supply Voltage"
part A pins: 1 OUT A (out) "Output of Comparator A.", 2 -IN A (in) "Inverting Input of Comparator A.", 3 +IN A (in) "Noninverting Input of Comparator A."
part B pins: 5 +IN B (in) "Noninverting Input of Comparator B.", 6 -IN B (in) "Inverting Input of Comparator B.", 7 OUT B (out) "Output of Comparator B."
part C pins: 9 EP (power) "Ground. The Exposed Pad must be soldered to PCB."

## LTC6702HDC#TRMPBF
designator U?
Tiny Micropower, Low Voltage Comparator, 2 Channels, 1.7 to 5.5 V, -40 to +125 degC, 8-pin Plastic DFN (DC8), Mini Tape and Reel; Generic Part Number: LTC6702; Manufacturer: Linear Technology; PartNumber: LTC6702HDC#TRMPBF; Channels (#): 2; Prop Delay (us): 0.5; Supply Current (uA) Typical: 30; Vos (mV) Guaranteed: 3.5; Vos (mV) Typical: 1; Vs Max (V): 5.5; Vs Min (V): 1.5; DatasheetVersion: Rev A; PackageReference: DC8; PackageDescription: 8-Pin Plastic DFN, Body 2 x 2 mm, Pitch 1.37 mm; Supplier 1: Digi-Key; Supplier Part Number 1: LTC6702HDC#TRMPBFTR-ND; Supplier 2: Digi-Key; Supplier Part Number 2: LTC6702HDC#TRMPBFCT-ND; Supplier 3: Digi-Key; Supplier Part Number 3: LTC6702HDC#TRMPBFDKR-ND; Supplier 4: Farnell; Supplier Part Number 4: 1715059; Features: Comparator; RoHS: Y; Supply Voltage Range: 1.7 to 5.5 V; Mounting Technology: Surface Mount; ComponentLink1Description: Manufacturer URL; ComponentLink1URL: http://www.linear.com/; ComponentLink2Description: Datasheet; ComponentLink2URL: http://cds.linear.com/docs/en/datasheet/6702fa.pdf; ComponentLink3Description: Package Specification; ComponentLink3URL: http://cds.linear.com/docs/en/packaging/DFN_8_05-08-1719.pdf
footprint LT-DC8_V (SON, 8-Leads, Body 2x2mm, Pitch 0.45mm, Thermal Pad 1.37x0.64mm, Recommended)
pins on every part: 4 GND (power) "Ground.", 8 V+ (power) "Positive Supply Voltage"
part A pins: 1 OUT A (out) "Output of Comparator A.", 2 -IN A (in) "Inverting Input of Comparator A.", 3 +IN A (in) "Noninverting Input of Comparator A."
part B pins: 5 +IN B (in) "Noninverting Input of Comparator B.", 6 -IN B (in) "Inverting Input of Comparator B.", 7 OUT B (out) "Output of Comparator B."
part C pins: 9 EP (power) "Ground. The Exposed Pad must be soldered to PCB."

## LTC6702HDC#TRPBF
designator U?
Tiny Micropower, Low Voltage Comparator, 2 Channels, 1.7 to 5.5 V, -40 to +125 degC, 8-pin Plastic DFN (DC8), Tape and Reel; Generic Part Number: LTC6702; Manufacturer: Linear Technology; PartNumber: LTC6702HDC#TRPBF; Channels (#): 2; Prop Delay (us): 0.5; Supply Current (uA) Typical: 30; Vos (mV) Guaranteed: 3.5; Vos (mV) Typical: 1; Vs Max (V): 5.5; Vs Min (V): 1.5; DatasheetVersion: Rev A; PackageReference: DC8; PackageDescription: 8-Pin Plastic DFN, Body 2 x 2 mm, Pitch 1.37 mm; Supplier 1: Digi-Key; Supplier Part Number 1: LTC6702HDC#TRPBF-ND; Features: Comparator; RoHS: Y; Supply Voltage Range: 1.7 to 5.5 V; Mounting Technology: Surface Mount; ComponentLink1Description: Manufacturer URL; ComponentLink1URL: http://www.linear.com/; ComponentLink2Description: Datasheet; ComponentLink2URL: http://cds.linear.com/docs/en/datasheet/6702fa.pdf; ComponentLink3Description: Package Specification; ComponentLink3URL: http://cds.linear.com/docs/en/packaging/DFN_8_05-08-1719.pdf
footprint LT-DC8_V (SON, 8-Leads, Body 2x2mm, Pitch 0.45mm, Thermal Pad 1.37x0.64mm, Recommended)
pins on every part: 4 GND (power) "Ground.", 8 V+ (power) "Positive Supply Voltage"
part A pins: 1 OUT A (out) "Output of Comparator A.", 2 -IN A (in) "Inverting Input of Comparator A.", 3 +IN A (in) "Noninverting Input of Comparator A."
part B pins: 5 +IN B (in) "Noninverting Input of Comparator B.", 6 -IN B (in) "Inverting Input of Comparator B.", 7 OUT B (out) "Output of Comparator B."
part C pins: 9 EP (power) "Ground. The Exposed Pad must be soldered to PCB."

## LTC6702HTS8#PBF
designator U?
Tiny Micropower, Low Voltage Comparator, 2 Channels, 1.7 to 5.5 V, -40 to +125 degC, 8-pin Plastic DFN (DC8); Generic Part Number: LTC6702; Manufacturer: Linear Technology; PartNumber: LTC6702HTS8#PBF; Channels (#): 2; Prop Delay (us): 0.5; Supply Current (uA) Typical: 30; Vos (mV) Guaranteed: 3.5; Vos (mV) Typical: 1; Vs Max (V): 5.5; Vs Min (V): 1.5; DatasheetVersion: Rev A; PackageReference: DC8; PackageDescription: 8-Pin Plastic DFN, Body 2 x 2 mm, Pitch 1.37 mm; Supplier 1: Farnell; Supplier Part Number 1: 2308164; Supplier 2: Newark; Supplier Part Number 2: 78T3487; Features: Comparator; RoHS: Y; Supply Voltage Range: 1.7 to 5.5 V; Mounting Technology: Surface Mount; ComponentLink1Description: Manufacturer URL; ComponentLink1URL: http://www.linear.com/; ComponentLink2Description: Datasheet; ComponentLink2URL: http://cds.linear.com/docs/en/datasheet/6702fa.pdf; ComponentLink3Description: Package Specification; ComponentLink3URL: http://cds.linear.com/docs/en/packaging/DFN_8_05-08-1719.pdf
footprint LT-DC8_V (SON, 8-Leads, Body 2x2mm, Pitch 0.45mm, Thermal Pad 1.37x0.64mm, Recommended)
pins on every part: 4 GND (power) "Ground.", 8 V+ (power) "Positive Supply Voltage"
part A pins: 1 OUT A (out) "Output of Comparator A.", 2 -IN A (in) "Inverting Input of Comparator A.", 3 +IN A (in) "Noninverting Input of Comparator A."
part B pins: 5 +IN B (in) "Noninverting Input of Comparator B.", 6 -IN B (in) "Inverting Input of Comparator B.", 7 OUT B (out) "Output of Comparator B."
part C pins: 9 EP (power) "Ground. The Exposed Pad must be soldered to PCB."

## LTC6702HTS8#TRMPBF
designator U?
Tiny Micropower, Low Voltage Comparator, 2 Channels, 1.7 to 5.5 V, -40 to +125 degC, 8-pin Plastic TSOT-23 (TS8), Mini Tape and Reel; Generic Part Number: LTC6702; Manufacturer: Linear Technology; PartNumber: LTC6702HTS8#TRMPBF; Channels (#): 2; Prop Delay (us): 0.5; Supply Current (uA) Typical: 30; Vos (mV) Guaranteed: 3.5; Vos (mV) Typical: 1; Vs Max (V): 5.5; Vs Min (V): 1.5; DatasheetVersion: Rev A; PackageVersion: Rev A; PackageReference: TS8-8; PackageDescription: 8-Pin Plastic TSOT-23, Body 2.9 x 1.63 mm, Pitch 0.65 mm; Supplier 1: Digi-Key; Supplier Part Number 1: LTC6702HTS8#TRMPBFTR-ND; Supplier 2: Digi-Key; Supplier Part Number 2: LTC6702HTS8#TRMPBFCT-ND; Supplier 3: Digi-Key; Supplier Part Number 3: LTC6702HTS8#TRMPBFDKR-ND; Supplier 4: Farnell; Supplier Part Number 4: 1715060; Supplier 5: Newark; Supplier Part Number 5: 79M3630; Features: Comparator; RoHS: Y; Supply Voltage Range: 1.7 to 5.5 V; Mounting Technology: Surface Mount; Code_JEDEC: MO-193; ComponentLink1Description: Manufacturer URL; ComponentLink1URL: http://www.linear.com/; ComponentLink2Description: Datasheet; ComponentLink2URL: http://cds.linear.com/docs/en/datasheet/6702fa.pdf; ComponentLink3Description: Package Specification; ComponentLink3URL: http://cds.linear.com/docs/en/packaging/SOT_8_05-08-1637.pdf
footprint LT-TS8-8-TSOT-23_V (SOT23, 8-Leads, Body 2.90x1.63mm, Pitch 0.65mm, Recommended)
pins on every part: 4 GND (power) "Ground.", 8 V+ (power) "Positive Supply Voltage."
part A pins: 1 OUT A (out) "Output of Comparator A.", 2 -IN A (in) "Inverting Input of Comparator A.", 3 +IN A (in) "Noninverting Input of Comparator A."
part B pins: 5 +IN B (in) "Noninverting Input of Comparator B.", 6 -IN B (in) "Inverting Input of Comparator B.", 7 OUT B (out) "Output of Comparator B."

## LTC6702HTS8#TRPBF
designator U?
Tiny Micropower, Low Voltage Comparator, 2 Channels, 1.7 to 5.5 V, -40 to +125 degC, 8-pin Plastic TSOT-23 (TS8), Tape and Reel; Generic Part Number: LTC6702; Manufacturer: Linear Technology; PartNumber: LTC6702HTS8#TRPBF; Channels (#): 2; Prop Delay (us): 0.5; Supply Current (uA) Typical: 30; Vos (mV) Guaranteed: 3.5; Vos (mV) Typical: 1; Vs Max (V): 5.5; Vs Min (V): 1.5; DatasheetVersion: Rev A; PackageVersion: Rev A; PackageReference: TS8-8; PackageDescription: 8-Pin Plastic TSOT-23, Body 2.9 x 1.63 mm, Pitch 0.65 mm; Supplier 1: Digi-Key; Supplier Part Number 1: LTC6702HTS8#TRPBF-ND; Features: Comparator; RoHS: Y; Supply Voltage Range: 1.7 to 5.5 V; Mounting Technology: Surface Mount; Code_JEDEC: MO-193; ComponentLink1Description: Manufacturer URL; ComponentLink1URL: http://www.linear.com/; ComponentLink2Description: Datasheet; ComponentLink2URL: http://cds.linear.com/docs/en/datasheet/6702fa.pdf; ComponentLink3Description: Package Specification; ComponentLink3URL: http://cds.linear.com/docs/en/packaging/SOT_8_05-08-1637.pdf
footprint LT-TS8-8-TSOT-23_V (SOT23, 8-Leads, Body 2.90x1.63mm, Pitch 0.65mm, Recommended)
pins on every part: 4 GND (power) "Ground.", 8 V+ (power) "Positive Supply Voltage."
part A pins: 1 OUT A (out) "Output of Comparator A.", 2 -IN A (in) "Inverting Input of Comparator A.", 3 +IN A (in) "Noninverting Input of Comparator A."
part B pins: 5 +IN B (in) "Noninverting Input of Comparator B.", 6 -IN B (in) "Inverting Input of Comparator B.", 7 OUT B (out) "Output of Comparator B."